# Altium footprint library RF-learn-command-1relay-220V-capacitor.PcbLib: 2 footprints
Each footprint in its own frame and in the unit in brackets; x right, y up, seen from the top. Pads: shape width x height; smd on the part's side, far side on the other; paste and mask are expansions set on the pad; w line width, h text height; cw(c..) or ccw(c..) is an arc to the next point about the centre after c.
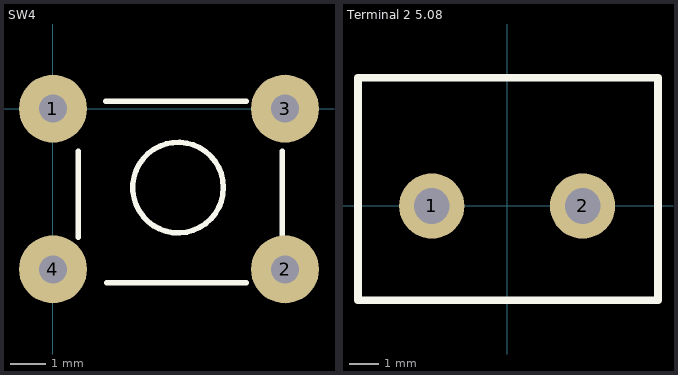
[diagram p0: the footprints below, top view; thin cyan lines are the x and y axes]

## SW4 [mil] "SW button 4pin, 250 x250 mil"
height 100
pads (4):
  round 75 hole 31: 1(0,0) 2(255.91,-177.17) 3(255.91,0) 4(0,-177.17)
Top Overlay:
  circle w6: c138,-87 r50
  lines w6: 28,-142 28,-47 ; 58,8 213,8 ; 59,-192 213,-192 ; 253,-142 253,-47
  lines w7: 252,-207 253,-206
3D body "SW3dPS-Panasonic-EVQPA-Pushbutton.STEP": height 374.02, standoff -137.8, extent -31.65,-203.1 291.65,33.12

## Terminal 2 5.08 [mm] "Terminal block 5.08mm 2 ways"
height 1.2
pads (2):
  round 2.2 hole 1.2: 1(-2.54,0) 2(2.54,0)
Top Overlay:
  lines w0.254: -5.025,-3.175 -5.025,4.318 5.08,4.318 5.08,-3.175 -5.025,-3.175
3D body "User Library-Terminal block 2 POS.STEP": height 10, standoff -3.05, extent -5.08,-3.173 5.08,4.327